# EAGLE library part TCA9406 (library ublox)
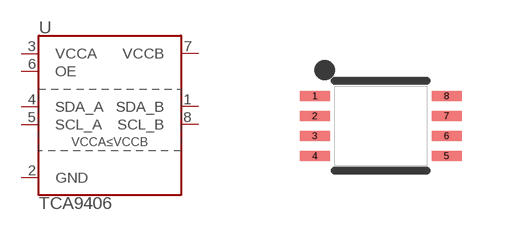
[diagram p7: symbol with the pads of VSSOP-8; footprint VSSOP-8]

Designator prefix U

## TCA9406DCU (PROD_ID: IC-14098)  [VSSOP-8]
1  SDA_B
2  GND
3  VCCA
4  SDA_A
5  SCL_A
6  OE
7  VCCB
8  SCL_B

## Footprint VSSOP-8 (pad centres in mm)
smd 0.75 x 0.25: 1 -1.65,0.75; 2 -1.65,0.25; 3 -1.65,-0.25; 4 -1.65,-0.75; 5 1.65,-0.75; 6 1.65,-0.25; 7 1.65,0.25; 8 1.65,0.75